# Altium footprint library RF Transceiver Modules and Modems.PcbLib: 2 footprints
Each footprint in its own frame and in the unit in brackets; x right, y up, seen from the top. Pads: shape width x height; smd on the part's side, far side on the other; paste and mask are expansions set on the pad; w line width, h text height; cw(c..) or ccw(c..) is an arc to the next point about the centre after c.
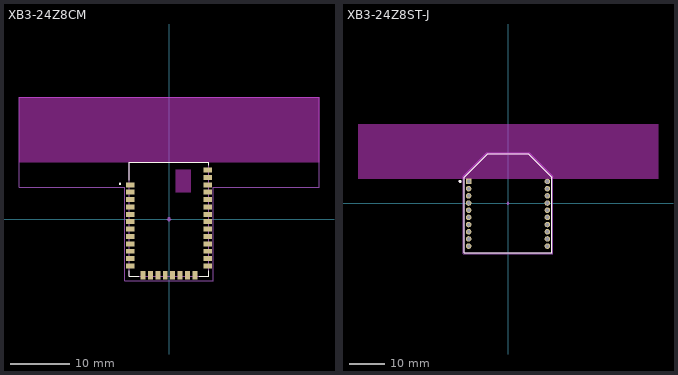
[diagram p0: the footprints below, top view; thin cyan lines are the x and y axes]

## XB3-24Z8CM [mil]
pads (34):
  rect 57x33 smd: 1(-258,230) 2(-258,180.8) 3(-258,131.6) 4(-258,82.4) 5(-258,33.2) 6(-258,-16) 7(-258,-65.2) 8(-258,-114.4) 9(-258,-163.6) 10(-258,-212.8) 11(-258,-262) 12(-258,-311.2) 21(258,-311.2) 22(258,-262) 23(258,-212.8) 24(258,-163.6) 25(258,-114.4) 26(258,-65.2) 27(258,-16) 28(258,33.2) 29(258,82.4) 30(258,131.6) 31(258,180.8) 32(258,230) 33(258,279.2) 34(258,329)
  rect 33x57 smd: 13(-172.5,-371.5) 14(-123.3,-371.5) 15(-74.1,-371.5) 16(-24.9,-371.5) 17(24.3,-371.5) 18(73.5,-371.5) 19(122.7,-371.5) 20(172.5,-371.5)
Top Overlay:
  circle w7.87: c-326.77,236.22 r3.94
  lines w3.94: -266.5,-341.73 -266.5,-380 -202.76,-380 ; -266.5,260.24 -266.5,380 266.5,380 266.5,359.45 ; 202.76,-380 266.5,-380 266.5,-341.73
Keep-Out Layer:
  region: 143.5,180 43.5,180 43.5,330 143.5,330
  region: 1000,380 -1000,380 -1000,814 1000,814
  region: 1000,380 -1000,380 -1000,814 1000,814
Mechanical 13:
  circle w7.87: c-326.77,236.22 r3.94
  lines w0.98: -266.5,-380 -266.5,380 266.5,380 266.5,-380 -266.5,-380
Mechanical 15:
  circle w1.97: c0,0 r9.84
  lines w1.97: -13.78,0 13.78,0 ; 0,-13.78 0,13.78
  lines w3.94: -1000,214 -296.46,214 -296.46,-409.84 296.46,-409.84 296.46,214 1000,214 1000,814 -1000,814 -1000,214
3D body "XB3-24Z8CM.STEP": height 97, standoff 0, extent -267,-380 267,380

## XB3-24Z8ST-J [mm]
pads (20):
  rect 1.53x1.53 hole 1.02: 1(-10.998,6.096)
  round 1.53 hole 1.02: 2(-10.998,4.089) 3(-10.998,2.083) 4(-10.998,0.076) 5(-10.998,-1.93) 6(-10.998,-3.937) 7(-10.998,-5.944) 8(-10.998,-7.95) 9(-10.998,-9.957) 10(-10.998,-11.963) 11(10.998,-11.963) 12(10.998,-9.957) 13(10.998,-7.95) 14(10.998,-5.944) 15(10.998,-3.937) 16(10.998,-1.93) 17(10.998,0.076) 18(10.998,2.083) 19(10.998,4.089) 20(10.998,6.096)
Top Overlay:
  circle w0.4: c-13.4,6.1 r0.2
  lines w0.1: -12.192,-13.818 12.192,-13.818 12.192,7.29 5.664,13.818 -5.664,13.818 -12.192,7.29 -12.192,-13.818
Keep-Out Layer:
  region: 41.9,6.86 -41.9,6.86 -41.9,22.06 41.9,22.06
  region: 41.9,6.86 -41.9,6.86 -41.9,22.06 41.9,22.06
  region: 41.9,6.86 -41.9,6.86 -41.9,22.06 41.9,22.06
Mechanical 13:
  circle w0.4: c-13.4,6.1 r0.2
  lines w0.025: -12.192,-13.818 -12.192,7.29 -5.664,13.818 5.664,13.818 12.192,7.29 12.192,-13.818 -12.192,-13.818
Mechanical 15:
  circle w0.05: c0,0 r0.25
  lines w0.05: -0.35,0 0.35,0 ; 0,-0.35 0,0.35
  lines w0.1: -12.442,-14.068 -12.442,7.544 -5.918,14.068 5.918,14.068 12.442,7.544 12.442,-14.068 -12.442,-14.068
3D body "XB3-24Z8ST-J--3DModel-STEP-56544.STEP": height 13.56, standoff 2.3, extent -12.192,-13.779 12.192,26.556
3D body "SQT-110-01-F-S.stp": height 6.35, standoff -2.29, extent 9.999,-13.07 11.997,7.228
3D body "SQT-110-01-F-S.stp": height 6.35, standoff -2.29, extent -11.997,-13.07 -9.999,7.228